# Altium schematic symbol library CD74HC4051PWR.SchLib: 1 symbol
Pins are listed as number, name and electrical type; pins without a type are passive.

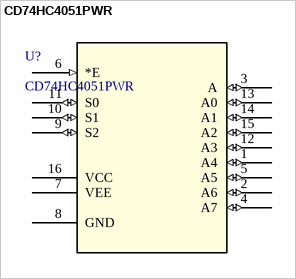
[diagram p0: symbol CD74HC4051PWR]

## CD74HC4051PWR
designator U?
5-V, 8:1, 1-channel analog multiplexer 16-TSSOP -55 to 125; Manufacturer_Name: Texas Instruments; Copyright: Copyright (C) 2026 Ultra Librarian. All rights reserved.; Manufacturer_Part_Number: CD74HC4051PWR; RefDes: RefDes; Type: Type
footprint PW16
pins: 1 A4 (io), 2 A6 (io), 3 A (io), 4 A7 (io), 5 A5 (io), 6 *E (in), 7 VEE (power), 8 GND (power), 9 S2 (io), 10 S1 (io), 11 S0 (io), 12 A3 (io), 13 A0 (io), 14 A1 (io), 15 A2 (io), 16 VCC (power)